# Altium schematic symbol library STM32WL_UFQFPN48_Reference_Design.SCHLIB: 27 symbols
Pins are listed as number, name and electrical type; pins without a type are passive.

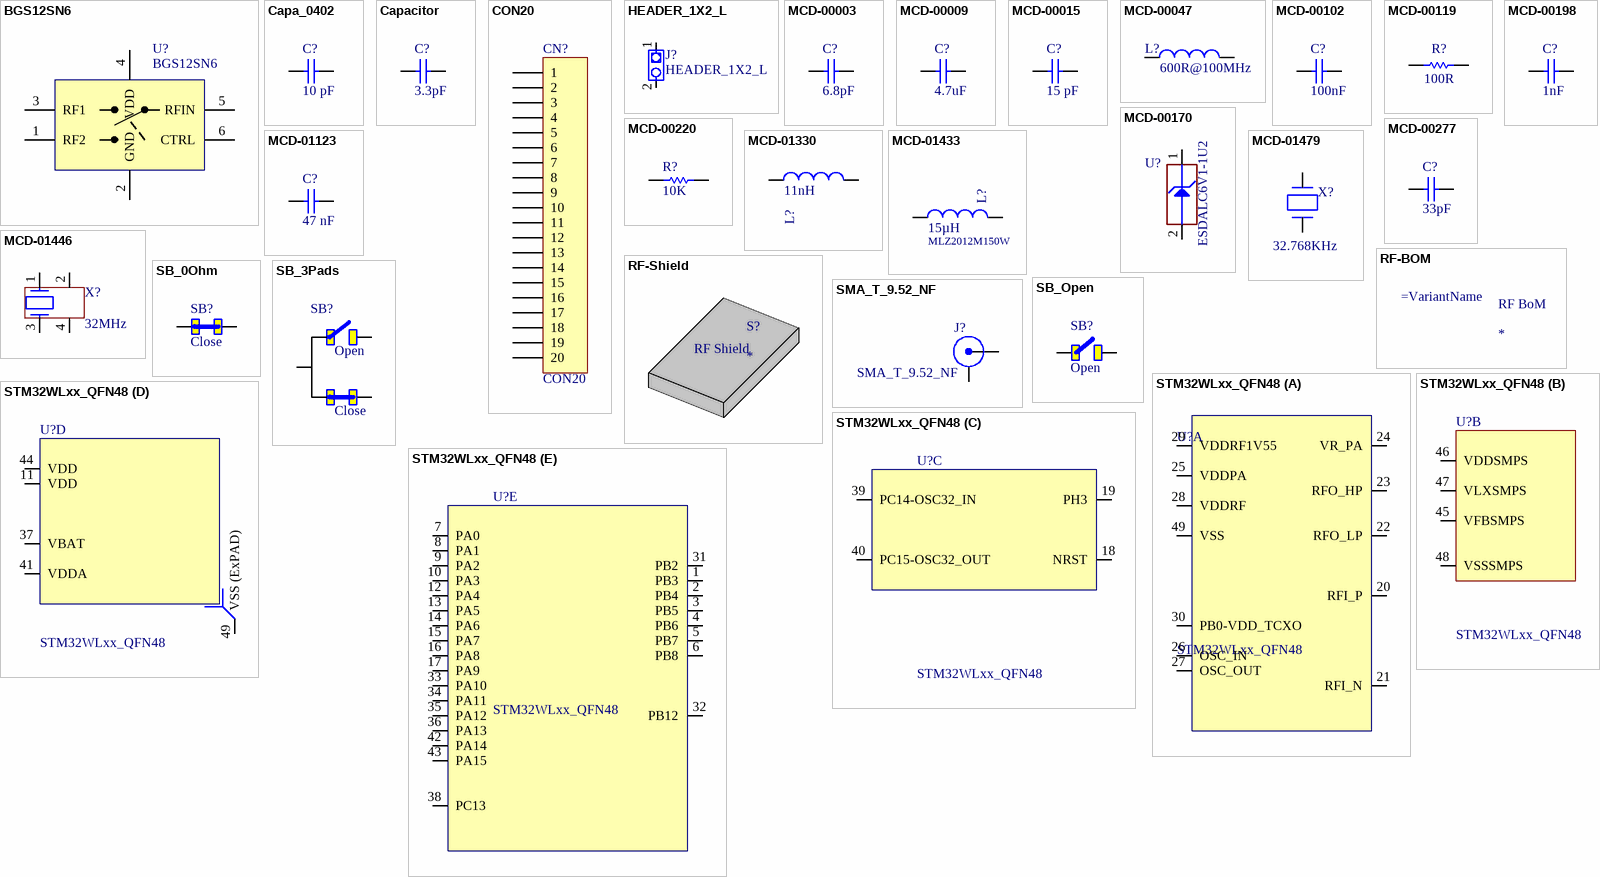
[diagram p0: symbols BGS12SN6 to STM32WLxx_QFN48]

## BGS12SN6
designator U?
DC switch - Ultra-Low  SPDT analog switch; Manufacturer: INFINEON; Manufacturer_Part_Number: BGS12SN6
footprint SON40P70X40-6N (SON, 6-Leads, Body 1.10x0.70mm, Pitch 0.40mm)
pins: 1 RF2, 2 GND, 3 RF1, 4 VDD, 5 RFIN, 6 CTRL

## Capa_0402
designator C?  value 10 pF  (hidden comment: Capa_0402)
10pF ±1% 50V Ceramic Capacitor C0G, NP0 0402 (1005 Metric); Manufacturer_Part_Number: GJM1555C1H100FB01D; Manufacturer: MURATA
footprint CAPC1005X06N (Chip Capacitor, 2-Leads, Body 1.00x0.50x0.60mm (0402))
pins: 1, 2

## Capacitor
designator C?  value 3.3pF
Condensateurs céramique multicouches MLCC - CMS 0402 3.3pF 50Volts C0G +/-0.05pF; Manufacturer_Part_Number: GJM1555C1H3R3WB01D; Manufacturer: Murata; Package: C0402
footprint CAPC1005X06N - duplicate - duplicate (Chip Capacitor, 2-Leads, Body 1.00x0.50x0.60mm (0402))
pins: 1, 2

## CON20
designator CN?
Connector right-angle, pitch 2.54mm, 20 contacts; Manufacturer: SAMTEC; Manufacturer_Part_Number: TSW-120-07-L-S
footprint CO_SAMTEC_TSW-120-07-x-S (Header, 20-Leads, 50.80x2.54x10.80mm, Pitch 2.54mm)
pins: 1, 2, 3, 4, 5, 6, 7, 8, 9, 10, 11, 12, 13, 14, 15, 16, 17, 18, 19, 20

## HEADER_1X2_L
designator J?
Header 1x2 Through hole 2.54mm; Manufacturer: MOLEX; Manufacturer_Part_Number: 22-03-2021
footprint CO_MOLEX_22-03-2021
footprint Header M 1x2x2.54 TH V (1x2x2.54 Header TH V Male)
footprint Header F 1x2x2.00 TH V (1x2x2.00 Header TH V Male height=5.5mm)
footprint Header F 1x2x2.00 TH V with Jumper (1x2x2.00 Header TH V Male height=5.5mm)
footprint Header NF 1x2x2.54 TH (1x2x2.54 Header TH Not Fitted)
pins: 1, 2

## MCD-00003
designator C?, comment value 6.8pF  (hidden comment: Capacitor)
Capacitor, MLCC, 6.8pF, 50V, NPO, +-0.1pF, 0402, T=0.5mm; Manufacturer_Part_Number: GRM1555C1H6R8BA01; Manufacturer: MURATA
footprint CAPC1005X06N (Chip Capacitor, 2-Leads, Body 1.00x0.50x0.60mm (0402))
pins: 1, 2

## MCD-00009
designator C?  value 4.7uF
Capacitor, MLCC, 4.7uF, 16V, X5R, 10%, 0603, T=0.8mm; Manufacturer_Part_Number: CC0603KRX5R7BB475; Manufacturer: YAGEO; Package: C0603
footprint CAPC1608X09N (Chip Capacitor, 2-Leads, Body 1.60x0.80x0.90mm (0603))
pins: 1, 2

## MCD-00015
designator C?  value 15 pF
Condensateurs céramique multicouches MLCC - CMS 0402 3.3pF 50Volts C0G +/-0.05pF; Manufacturer_Part_Number: GJM1555C1H150JB01; Manufacturer: MURATA
footprint CAPC1005X06N (Chip Capacitor, 2-Leads, Body 1.00x0.50x0.60mm (0402))
pins: 1, 2

## MCD-00047
designator L?  value 600R@100MHz
SMD Chip ferrite bead, 600R@100MHz +/-25%, 350mA, 500mohm DC, 0603, T=0.8mm; Manufacturer_Part_Number: FCM1608KF-601T03; Manufacturer: TAI-TECH
footprint INDC1608X95N (Chip Inductor, 2-Leads, Body 1.75x0.95x0.95mm (0603))
pins: 1, 2

## MCD-00102
designator C?  value 100nF
Capacitor, MLCC, 100nF, 16V, X7R, 10%, 0402, T=0,5mm; Manufacturer_Part_Number: CC0402KRX7R7BB104; Manufacturer: YAGEO; Package: C0402
footprint CAPC1005X06N (Chip Capacitor, 2-Leads, Body 1.00x0.50x0.60mm (0402))
pins: 1, 2

## MCD-00119
designator R?  value 100R
Resistor,100R,0402,1%,1/16W; Manufacturer_Part_Number: RC0402FR-07100RL; Manufacturer: YAGEO
footprint RESC1005X04N (Chip Resistor, 2-Leads, Body 1.00x0.50mm (0402))
pins: 1, 2

## MCD-00170
designator U?  Manufacturer_Part_Number: ESDALC6V1-1U2
ESD protection 6V1; Manufacturer: STMICROELECTRONICS
footprint DIOM0603X03N (Footprint not found)
pins: 1 IO1, 2 GND

## MCD-00198
designator C?  value 1nF
Capacitor, MLCC, 1nF, 16V, X7R, 10%, 0402, T=0.5mm; Manufacturer_Part_Number: CC0402KRX7R7BB102; Manufacturer: YAGEO
footprint CAPC1005X06N (Chip Capacitor, 2-Leads, Body 1.00x0.50x0.60mm (0402))
pins: 1, 2

## MCD-00220
designator R?  value 10K
Resistor,10K,0603,1%,1/10W; Manufacturer_Part_Number: RC0603FR-0710KL; Manufacturer: YAGEO
footprint RESC1608X05N (Chip Resistor, 2-Leads, Body 1.60x0.80mm (0603))
pins: 1, 2

## MCD-00277
designator C?  value 33pF
Capacitor, MLCC, 33pF, 50V, NPO, 2%, 0402, T=0,5mm; Manufacturer_Part_Number: GRM1555C1H330GA01; Manufacturer: MURATA
footprint CAPC1005X06N (Chip Capacitor, 2-Leads, Body 1.00x0.50x0.60mm (0402))
pins: 1, 2

## MCD-01123
designator C?  value 47 nF
Capacitor, MLCC,47nF, 16V, X7R, 10%, 0402, T=0.5mm; Manufacturer_Part_Number: GCM155R71E473KA55; Manufacturer: MURATA
footprint CAPC1005X06N (Chip Capacitor, 2-Leads, Body 1.00x0.50x0.60mm (0402))
pins: 1, 2

## MCD-01330
designator L?  value 11nH
Inductor, 11 nH, +-0.1nH, 270mA, 0402; Manufacturer_Part_Number: LQW15AN11NG00D; Manufacturer: MURATA
footprint IND_MURATA_LQW15A (Inductor 2-Leads,Body 1.10x0.70x0.60mm(max))
pins: 1, 2

## MCD-01433
designator L?  value 15µH  Manufacturer_Part_Number: MLZ2012M150W
MLZ2012 Multilayer Shielded Inductor 15µH, ±5%; Manufacturer: TDK
footprint INDC2012X13N (Chip Inductor, 2-Leads, Body 2.0x1.2x1.3 (0805))
pins: 1, 2

## MCD-01446
designator X?  value 32MHz
Crystal 32 MHz, 8pF, -+10 PPM, R=60Ω, SMD; Manufacturer_Part_Number: NX2016SA 32MHz EXS00A-CS06465; Manufacturer: NDK
footprint OSC_NDK_NX2016SA (Crystal, 4-Leads, Body 2.10x1.61x0.50mm (max), Pitch 1.35x1.05mm)
signal-integrity model Guessed Model (IC Model Details Guessed by Setup Helper)
pins: 1, 2, 3, 4

## MCD-01479
designator X?, comment value 32.768KHz  (hidden comment: XTAL_2_PINS)
Crystal 32.768kHz, 6pF, -+20PPM, R=80K, SMD; Manufacturer_Part_Number: NX2012SA 32.768KHz EXS00A-MU00527; Manufacturer: NDK
footprint OSC_NDK_NX2012SA (Crystal, 2-Leads, Body 2.05x1.20x0.55mm (Tol:-/+0.05))
pins: 1 X1, 2 X2

## RF-BOM
designator RF BoM  (mechanical)

## RF-Shield
designator S?  (mechanical)
RF Shield Frame + Cover without apertures; Manufacturer: Masach Tech; Manufacturer_Part_Number: MS409-10
text: RF Shield

## SB_0Ohm
designator SB?, comment Close
Solder Bridge 0R [0402] (Populated with 0 Ohm); Manufacturer: Vishay / Dale; Manufacturer_Part_Number: RCS04020000Z0ED; VALUE: 0; Revision: July-2002: Re-released for DXP Platform.
footprint SB_0402 (Souder Bridge [0402])
signal-integrity model Guessed Model (IC Model Details Guessed by Setup Helper)
pins: 1, 2

## SB_3Pads
designator SB?  (value not drawn)
Solder Bridge
footprint SB3Pads_0402 (Solder Bridge 0 Ohm (0402))
signal-integrity model Guessed Model (IC Model Details Guessed by Setup Helper)
pins: 1, 2, 3
text: Open; Close

## SB_Open
designator SB?, comment Open
Solder Bridge Open [0402] (Unpopulated); Revision: July-2002: Re-released for DXP Platform.
footprint SB_0402 (Souder Bridge [0402])
signal-integrity model Guessed Model (IC Model Details Guessed by Setup Helper)
pins: 1, 2

## SMA_T_9.52_NF
designator J?
SMA Jack, Edge Mount, 50 Ohms; Manufacturer: SAMTEC; Manufacturer_Part_Number: SMA-J-P-H-ST-EM1
footprint CO_SAMTEC_SMA-J-P-ST-EMI
pins: 1 X, 2 Y

## STM32WLxx_QFN48
designator U?
HQDC : Verified April, 25 2019; Manufacturer: STMicroelectronics; Manufacturer_Part_Number: STM32WLxxxx
footprint STM32WLxx_QFN48 (QFN48 7x7x0.55mm pitch 0.5mm)
part A pins: 20 RFI_P, 21 RFI_N, 22 RFO_LP, 23 RFO_HP, 24 VR_PA, 25 VDDPA, 26 OSC_IN, 27 OSC_OUT, 28 VDDRF, 29 VDDRF1V55, 30 PB0-VDD_TCXO, 49 VSS
part B pins: 45 VFBSMPS, 46 VDDSMPS, 47 VLXSMPS, 48 VSSSMPS
part C pins: 18 NRST, 19 PH3, 39 PC14-OSC32_IN, 40 PC15-OSC32_OUT
part D pins: 11 VDD, 37 VBAT, 41 VDDA, 44 VDD, 49 VSS (ExPAD)
part E pins: 1 PB3, 2 PB4, 3 PB5, 4 PB6, 5 PB7, 6 PB8, 7 PA0, 8 PA1, 9 PA2, 10 PA3, 12 PA4, 13 PA5, 14 PA6, 15 PA7, 16 PA8, 17 PA9, 31 PB2, 32 PB12, 33 PA10, 34 PA11, 35 PA12, 36 PA13, 38 PC13, 42 PA14, 43 PA15